# EAGLE library part BM04B-GHS-TBT_LF__SN_ (library BM04B-GHS-TBT_LF__SN_)
GH Series 1.25 mm Pitch 4 Position Single Row Top Entry Shrouded Header Source: Datasheet <https://g.componentsearchengine.com/ga/3Dstep>
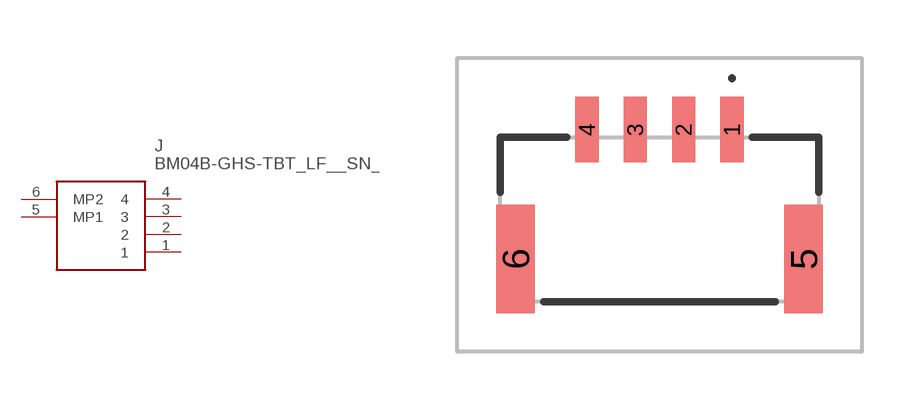
[diagram p0: symbol with the pads of BM04BGHSTBTLFSN; footprint BM04BGHSTBTLFSN]

Designator prefix J

## BM04B-GHS-TBT_LF__SN_ (Description: GH Series 1.25 mm Pitch 4 Position Single Row Top Entry Shrouded Header; Height: 4.2mm; Manufacturer_Name: JST (JAPAN SOLDERLESS TERMINALS); Manufacturer_Part_Number: BM04B-GHS-TBT(LF)(SN); Mouser_Part_Number: 306-BM04BGHSTBTLFSNN; Mouser_Price-Stock: https://www.mouser.co.uk/ProductDetail/JST-Commercial/BM04B-GHS-TBTLFSN?qs=cdbOS8ANM9DuBD4arU9XYQ%3D%3D)  [BM04BGHSTBTLFSN]
1  1
2  2
3  3
4  4
5  MP1
6  MP2

## Footprint BM04BGHSTBTLFSN (pad centres in mm)
BM04B-GHS-TBT(LF)(SN)-5
smd 0.6 x 1.7: 1 1.875,2.225; 2 0.625,2.225; 3 -0.625,2.225; 4 -1.875,2.225
smd 1 x 2.8: 5 3.725,-1.125; 6 -3.725,-1.125